# EAGLE library part LM311DG (library ON Semiconductor_By_element14_Batch_1)
Single Comparators
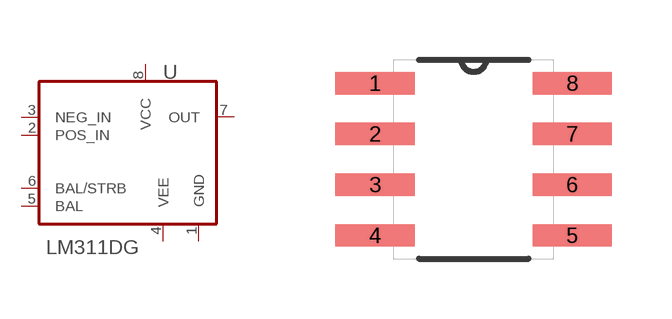
[diagram p51: symbol with the pads of SOIC127P600X175-8N; footprint SOIC127P600X175-8N]

Designator prefix U

## LM311DG (MPN: LM311DG; OC_FARNELL: 1468705; OC_NEWARK: 98H0570; P1I: o; PACKAGE: SOIC-8; SUPPLIER: Onsemiconductor)  [SOIC127P600X175-8N]
1  GND  pas
2  POS_IN  in
3  NEG_IN  in
4  VEE  pwr
5  BAL  in
6  BAL/STRB  in
7  OUT  out
8  VCC  pwr

## Footprint SOIC127P600X175-8N (pad centres in mm)
smd 1.981 x 0.559: 1 -2.464,1.905; 2 -2.464,0.635; 3 -2.464,-0.635; 4 -2.464,-1.905; 5 2.464,-1.905; 6 2.464,-0.635; 7 2.464,0.635; 8 2.464,1.905